# Altium footprint library PEC16-4015F-S0024.PcbLib: 1 footprints
Each footprint in its own frame and in the unit in brackets; x right, y up, seen from the top. Pads: shape width x height; smd on the part's side, far side on the other; paste and mask are expansions set on the pad; w line width, h text height; cw(c..) or ccw(c..) is an arc to the next point about the centre after c.
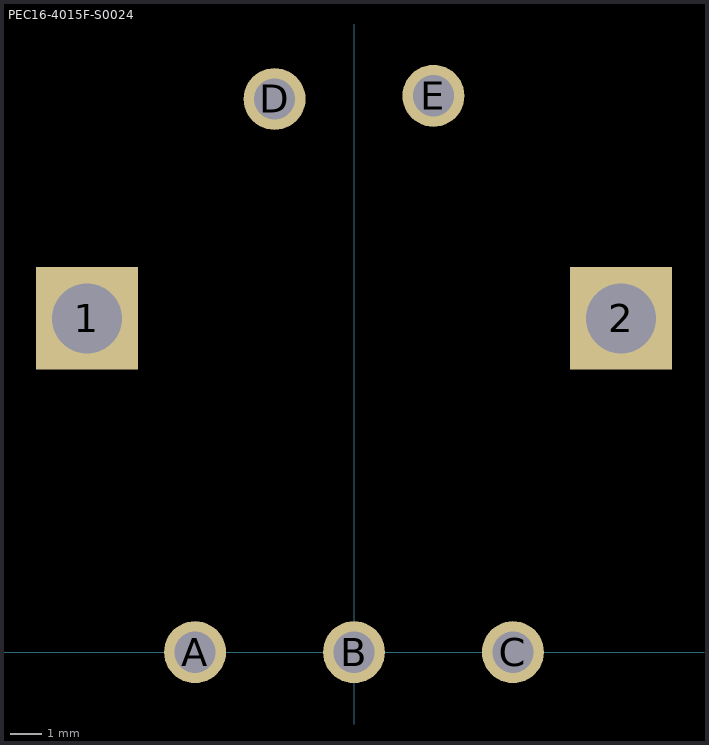
[diagram p0: the footprint, top view; thin cyan lines are the x and y axes]

## PEC16-4015F-S0024 [mm]
pads (7):
  rect 3.216x3.216 hole 2.2: 1(-8.4,10.5) 2(8.4,10.5)
  round 1.95 hole 1.3: A(-5,0) B(0,0) C(5,0) D(-2.5,17.4) E(2.5,17.5)